# Altium schematic symbol library Sch for NFC.SchLib: 70 symbols (part 6 of 7)
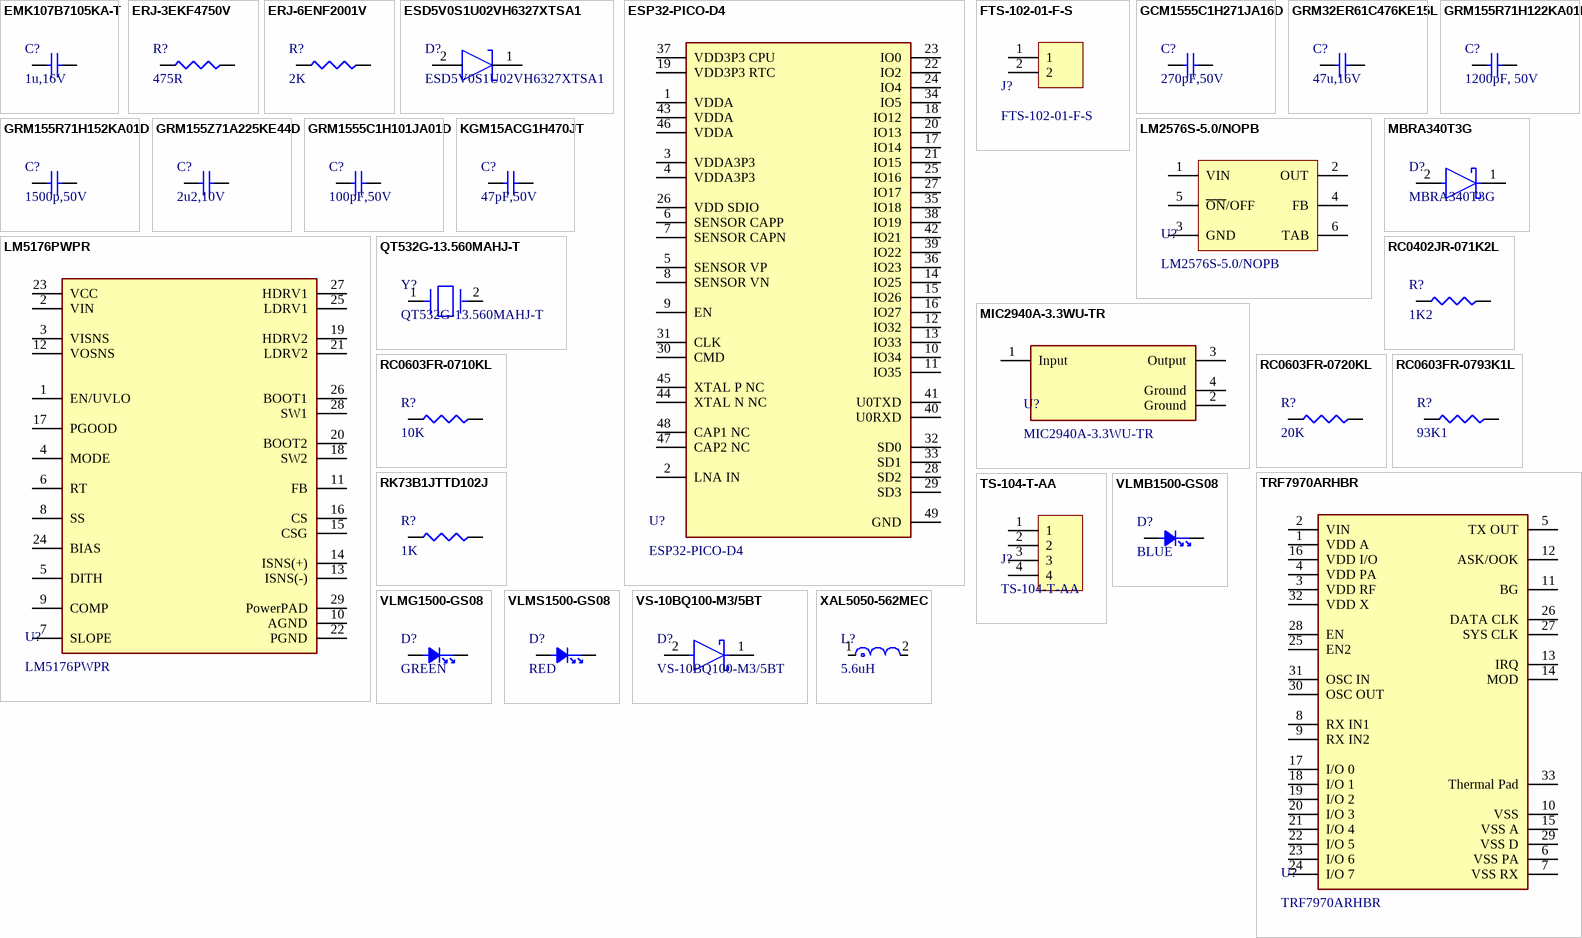
[diagram p6: symbols EMK107B7105KA-T to XAL5050-562MEC]

## GRM32ER61C476KE15L
designator C?, comment 47u,16V
47 µF ±10% 16V Ceramic Capacitor X5R 1210 (3225 Metric); Manufacturer: Murata; Manufacturer Part Number: GRM32ER61C476KE15L; Manufacturer Lifecycle Status: NRND; Value: 47µF; Supplier: DigiKey; RoHS: Compliant; Category: Ceramic Capacitors; Stock: 76946; Pricing: 1=1.23, 10=0.798, 50=0.6284, 100=0.5762, 500=0.48794, 1000=0.46985, 2000=0.44694, 3000=0.43546, 5000=0.42273, 7000=0.41529, 10000=0.40814, 12000=0.40475, 24000=0.39332, 25000=0.39272 (USD); Case/Package: 1210; Case Code (Imperial): 1210; Case Code (Metric): 3225; Depth: 2.5mm; Dielectric: X5R; Dielectric Material: Ceramic; Height: 2.5mm; Lead Free: Lead Free; Length: 3.2mm; Lifecycle Status: NRND; Material: Ceramic; Max Operating Temperature: 85°C; Min Operating Temperature: -55°C; Mounting Technology: Surface Mount; Pins: 2; Number of Terminals: 2; Radiation Hardening: No; REACH SVHC: Yes; Schedule B: 8532240020, 8532240020|8532240020, 8532240020|8532240020|8532240020, 8532240020|8532240020|8532240020|8532240020; Termination: SMD/SMT; Thickness: 2.5mm; Tolerance: 10%; Voltage: 16V; Voltage Rating: 16V; Voltage Rating (DC): 16V; Width: 2.5mm; ComponentLink1URL: https://datasheet.octopart.com:443/GRM32ER61C476KE15L-Murata-datasheet-11893327.pdf?src-supplier=_legacy+Avnet; ComponentLink1Description: https://datasheet.octopart.com:443/GRM32ER61C476KE15L-Murata-datasheet-11893327.pdf?src-supplier=_legacy+Avnet; ComponentLink2URL: https://datasheet.octopart.com:443/GRM32ER61C476KE15L-Murata-datasheet-62317406.pdf?src-supplier=element14+APAC; ComponentLink2Description: https://datasheet.octopart.com:443/GRM32ER61C476KE15L-Murata-datasheet-62317406.pdf?src-supplier=element14+APAC; ComponentLink3URL: https://datasheet.octopart.com:443/GRM32ER61C476KE15L-Murata-datasheet-17853190.pdf?src-supplier=element14+APAC; ComponentLink3Description: https://datasheet.octopart.com:443/GRM32ER61C476KE15L-Murata-datasheet-17853190.pdf?src-supplier=element14+APAC; ComponentLink4URL: https://datasheet.octopart.com:443/GRM32ER61C476KE15L-Murata-datasheet-8817987.pdf?src-supplier=Newark; ComponentLink4Description: https://datasheet.octopart.com:443/GRM32ER61C476KE15L-Murata-datasheet-8817987.pdf?src-supplier=Newark; ComponentLink5URL: https://datasheet.octopart.com:443/GRM32ER61C476KE15L-Murata-datasheet-14403028.pdf?src-supplier=Future+Electronics; ComponentLink5Description: https://datasheet.octopart.com:443/GRM32ER61C476KE15L-Murata-datasheet-14403028.pdf?src-supplier=Future+Electronics; ComponentLink6URL: https://datasheet.octopart.com:443/GRM32ER61C476KE15L-Murata-datasheet-22122223.pdf?src-supplier=Future+Electronics; ComponentLink6Description: https://datasheet.octopart.com:443/GRM32ER61C476KE15L-Murata-datasheet-22122223.pdf?src-supplier=Future+Electronics; ComponentLink7URL: https://datasheet.octopart.com:443/GRM32ER61C476KE15L-Murata-datasheet-44109711.pdf?src-supplier=Future+Electronics; ComponentLink7Description: https://datasheet.octopart.com:443/GRM32ER61C476KE15L-Murata-datasheet-44109711.pdf?src-supplier=Future+Electronics; ComponentLink8URL: https://datasheet.octopart.com:443/GRM32ER61C476KE15L-Murata-datasheet-165579666.pdf?src-supplier=TME; ComponentLink8Description: https://datasheet.octopart.com:443/GRM32ER61C476KE15L-Murata-datasheet-165579666.pdf?src-supplier=TME; ComponentLink9URL: https://datasheet.octopart.com:443/GRM32ER61C476KE15L-Murata-datasheet-59876780.pdf?src-supplier=TME; ComponentLink9Description: https://datasheet.octopart.com:443/GRM32ER61C476KE15L-Murata-datasheet-59876780.pdf?src-supplier=TME; ComponentLink10URL: https://datasheet.octopart.com:443/GRM32ER61C476KE15L-Murata-datasheet-140709622.pdf?src-supplier=Ciiva; ComponentLink10Description: https://datasheet.octopart.com:443/GRM32ER61C476KE15L-Murata-datasheet-140709622.pdf?src-supplier=Ciiva; ComponentLink11URL: https://datasheet.octopart.com:443/GRM32ER61C476KE15L-Murata-datasheet-138747025.pdf?src-supplier=Ciiva; ComponentLink11Description: https://datasheet.octopart.com:443/GRM32ER61C476KE15L-Murata-datasheet-138747025.pdf?src-supplier=Ciiva; ComponentLink12URL: https://datasheet.octopart.com:443/GRM32ER61C476KE15L-Murata-datasheet-14047368.pdf?src-supplier=iiiC; ComponentLink12Description: https://datasheet.octopart.com:443/GRM32ER61C476KE15L-Murata-datasheet-14047368.pdf?src-supplier=iiiC; ComponentLink13URL: https://datasheet.octopart.com/GRM32ER61C476KE15L-Murata-datasheet-12515295.pdf; ComponentLink13Description: https://datasheet.octopart.com/GRM32ER61C476KE15L-Murata-datasheet-12515295.pdf; ComponentLink14URL: https://datasheet.octopart.com/GRM32ER61C476KE15L-Murata-datasheet-12510076.pdf; ComponentLink14Description: https://datasheet.octopart.com/GRM32ER61C476KE15L-Murata-datasheet-12510076.pdf; ComponentLink15URL: https://datasheet.octopart.com/GRM32ER61C476KE15L-Murata-datasheet-11978611.pdf; ComponentLink15Description: https://datasheet.octopart.com/GRM32ER61C476KE15L-Murata-datasheet-11978611.pdf; ComponentLink16URL: https://datasheet.octopart.com/GRM32ER61C476KE15L-Murata-datasheet-10025737.pdf; ComponentLink16Description: https://datasheet.octopart.com/GRM32ER61C476KE15L-Murata-datasheet-10025737.pdf; ComponentLink17URL: https://datasheet.octopart.com/GRM32ER61C476KE15L-Murata-datasheet-8819587.pdf; ComponentLink17Description: https://datasheet.octopart.com/GRM32ER61C476KE15L-Murata-datasheet-8819587.pdf; ComponentLink18URL: https://datasheet.octopart.com:443/GRM32ER61C476KE15L.-Murata-datasheet-5332913.pdf?src-supplier=Farnell; ComponentLink18Description: https://datasheet.octopart.com:443/GRM32ER61C476KE15L.-Murata-datasheet-5332913.pdf?src-supplier=Farnell; ComponentLink19URL: http://sigma.octopart.com:80/reach_statement/Murata-company-16.pdf?src-supplier=Compliance+Statements; ComponentLink19Description: http://sigma.octopart.com:80/reach_statement/Murata-company-16.pdf?src-supplier=Compliance+Statements; LCSC PN: C77101
footprint cap1210-47u-16v
pins: 1, 2

## GRM155R71H122KA01D
designator C?, comment 1200pF, 50V
1200 pF ±10% 50V Ceramic Capacitor X7R 0402 (1005 Metric); Manufacturer: Murata; Manufacturer Part Number: GRM155R71H122KA01D; Manufacturer Lifecycle Status: NRND; Value: 1.2nF; Supplier: DigiKey; RoHS: Compliant; Category: Ceramic Capacitors; Stock: 161514; Pricing: 1=0.1, 10=0.027, 50=0.0184, 100=0.0156, 500=0.01102, 1000=0.00962, 2500=0.00781, 5000=0.00728 (USD); Case/Package: 0402; Case Code (Imperial): 0402; Case Code (Metric): 1005; Depth: 500µm; Dielectric: X7R; Dielectric Material: Ceramic; Height: 500µm; Lead Free: Lead Free; Length: 1mm; Lifecycle Status: NRND; Material: Ceramic; Max Operating Temperature: 125°C; Min Operating Temperature: -55°C; Mounting Technology: Surface Mount; Pins: 2; Number of Terminals: 2; Radiation Hardening: No; REACH SVHC: Yes; Schedule B: 8532240020, 8532240020|8532240020, 8532240020|8532240020|8532240020, 8532240020|8532240020|8532240020|8532240020; Termination: SMD/SMT; Thickness: 500µm; Tolerance: 10%; Voltage: 50V; Voltage Rating: 50V; Voltage Rating (DC): 50V; Width: 500µm; ComponentLink1URL: https://datasheet.octopart.com/GRM155R71H122KA01D-Murata-datasheet-12541967.pdf; ComponentLink1Description: https://datasheet.octopart.com/GRM155R71H122KA01D-Murata-datasheet-12541967.pdf; ComponentLink2URL: https://datasheet.octopart.com/GRM155R71H122KA01D-Murata-datasheet-12515295.pdf; ComponentLink2Description: https://datasheet.octopart.com/GRM155R71H122KA01D-Murata-datasheet-12515295.pdf; ComponentLink3URL: https://datasheet.octopart.com/GRM155R71H122KA01D-Murata-datasheet-12510076.pdf; ComponentLink3Description: https://datasheet.octopart.com/GRM155R71H122KA01D-Murata-datasheet-12510076.pdf; ComponentLink4URL: https://datasheet.octopart.com/GRM155R71H122KA01D-Murata-datasheet-11978611.pdf; ComponentLink4Description: https://datasheet.octopart.com/GRM155R71H122KA01D-Murata-datasheet-11978611.pdf; ComponentLink5URL: https://datasheet.octopart.com/GRM155R71H122KA01D-Murata-datasheet-10025737.pdf; ComponentLink5Description: https://datasheet.octopart.com/GRM155R71H122KA01D-Murata-datasheet-10025737.pdf; ComponentLink6URL: https://datasheet.octopart.com/GRM155R71H122KA01D-Murata-datasheet-8819587.pdf; ComponentLink6Description: https://datasheet.octopart.com/GRM155R71H122KA01D-Murata-datasheet-8819587.pdf; ComponentLink7URL: https://datasheet.octopart.com:443/GRM155R71H122KA01D-Murata-datasheet-140691773.pdf?src-supplier=Ciiva; ComponentLink7Description: https://datasheet.octopart.com:443/GRM155R71H122KA01D-Murata-datasheet-140691773.pdf?src-supplier=Ciiva; ComponentLink8URL: https://datasheet.octopart.com:443/GRM155R71H122KA01D-Murata-datasheet-140689249.pdf?src-supplier=Ciiva; ComponentLink8Description: https://datasheet.octopart.com:443/GRM155R71H122KA01D-Murata-datasheet-140689249.pdf?src-supplier=Ciiva; ComponentLink9URL: https://datasheet.octopart.com:443/GRM155R71H122KA01D-Murata-datasheet-138740985.pdf?src-supplier=Ciiva; ComponentLink9Description: https://datasheet.octopart.com:443/GRM155R71H122KA01D-Murata-datasheet-138740985.pdf?src-supplier=Ciiva; ComponentLink10URL: https://datasheet.octopart.com:443/GRM155R71H122KA01D-Murata-datasheet-22122223.pdf?src-supplier=Future+Electronics; ComponentLink10Description: https://datasheet.octopart.com:443/GRM155R71H122KA01D-Murata-datasheet-22122223.pdf?src-supplier=Future+Electronics; ComponentLink11URL: https://datasheet.octopart.com:443/GRM155R71H122KA01D-Murata-datasheet-44106582.pdf?src-supplier=Future+Electronics; ComponentLink11Description: https://datasheet.octopart.com:443/GRM155R71H122KA01D-Murata-datasheet-44106582.pdf?src-supplier=Future+Electronics; ComponentLink12URL: https://datasheet.octopart.com:443/GRM155R71H122KA01D-Murata-datasheet-102.pdf?src-supplier=DigiKey; ComponentLink12Description: https://datasheet.octopart.com:443/GRM155R71H122KA01D-Murata-datasheet-102.pdf?src-supplier=DigiKey; ComponentLink13URL: http://sigma.octopart.com:80/reach_statement/Murata-company-16.pdf?src-supplier=Compliance+Statements; ComponentLink13Description: http://sigma.octopart.com:80/reach_statement/Murata-company-16.pdf?src-supplier=Compliance+Statements; LCSC PN: C116368
footprint 1200F-50V-0402-Murata_GRM15_MFG
pins: 1, 2

## GRM155R71H152KA01D
designator C?, comment 1500p,50V
1500 pF ±10% 50V Ceramic Capacitor X7R 0402 (1005 Metric); Manufacturer: Murata; Manufacturer Part Number: GRM155R71H152KA01D; Manufacturer Lifecycle Status: NRND; Value: 1.5nF; Supplier: DigiKey; RoHS: Compliant; Category: Ceramic Capacitors; Stock: 112151; Pricing: 1=0.1, 10=0.021, 50=0.0138, 100=0.0117, 500=0.00816, 1000=0.00708, 2500=0.00572, 5000=0.00527, 10000=0.00425, 20000=0.00326, 30000=0.00324, 50000=0.00322, 70000=0.0032, 100000=0.00314, 120000=0.00308, 240000=0.00288, 250000=0.00287 (USD); Case/Package: 0402; Case Code (Imperial): 0402; Case Code (Metric): 1005; Depth: 500µm; Dielectric: X7R; Dielectric Material: Ceramic; Height: 500µm; Lead Free: Lead Free; Length: 1mm; Lifecycle Status: NRND; Material: Ceramic; Max Operating Temperature: 125°C; Min Operating Temperature: -55°C; Mounting Technology: Surface Mount; Pins: 2; Number of Terminals: 2; Packaging: Cut Tape; Radiation Hardening: No; REACH SVHC: Yes; Schedule B: 8532240020, 8532240020|8532240020, 8532240020|8532240020|8532240020, 8532240020|8532240020|8532240020|8532240020; Termination: SMD/SMT; Thickness: 500µm; Tolerance: 10%; Voltage: 50V; Voltage Rating: 50V; Voltage Rating (DC): 50V; Width: 500µm; ComponentLink1URL: https://datasheet.octopart.com:443/GRM155R71H152KA01D-Murata-datasheet-8817987.pdf?src-supplier=element14+APAC; ComponentLink1Description: https://datasheet.octopart.com:443/GRM155R71H152KA01D-Murata-datasheet-8817987.pdf?src-supplier=element14+APAC; ComponentLink2URL: https://datasheet.octopart.com:443/GRM155R71H152KA01D-Murata-datasheet-62317135.pdf?src-supplier=element14+APAC; ComponentLink2Description: https://datasheet.octopart.com:443/GRM155R71H152KA01D-Murata-datasheet-62317135.pdf?src-supplier=element14+APAC; ComponentLink3URL: https://datasheet.octopart.com:443/GRM155R71H152KA01D-Murata-datasheet-8326276.pdf?src-supplier=_legacy+Avnet; ComponentLink3Description: https://datasheet.octopart.com:443/GRM155R71H152KA01D-Murata-datasheet-8326276.pdf?src-supplier=_legacy+Avnet; ComponentLink4URL: https://datasheet.octopart.com/GRM155R71H152KA01D-Murata-datasheet-12534922.pdf; ComponentLink4Description: https://datasheet.octopart.com/GRM155R71H152KA01D-Murata-datasheet-12534922.pdf; ComponentLink5URL: https://datasheet.octopart.com/GRM155R71H152KA01D-Murata-datasheet-12515295.pdf; ComponentLink5Description: https://datasheet.octopart.com/GRM155R71H152KA01D-Murata-datasheet-12515295.pdf; ComponentLink6URL: https://datasheet.octopart.com/GRM155R71H152KA01D-Murata-datasheet-12510076.pdf; ComponentLink6Description: https://datasheet.octopart.com/GRM155R71H152KA01D-Murata-datasheet-12510076.pdf; ComponentLink7URL: https://datasheet.octopart.com/GRM155R71H152KA01D-Murata-datasheet-11978611.pdf; ComponentLink7Description: https://datasheet.octopart.com/GRM155R71H152KA01D-Murata-datasheet-11978611.pdf; ComponentLink8URL: https://datasheet.octopart.com/GRM155R71H152KA01D-Murata-datasheet-10025737.pdf; ComponentLink8Description: https://datasheet.octopart.com/GRM155R71H152KA01D-Murata-datasheet-10025737.pdf; ComponentLink9URL: https://datasheet.octopart.com/GRM155R71H152KA01D-Murata-datasheet-8819587.pdf; ComponentLink9Description: https://datasheet.octopart.com/GRM155R71H152KA01D-Murata-datasheet-8819587.pdf; ComponentLink10URL: https://datasheet.octopart.com:443/GRM155R71H152KA01D-Murata-datasheet-141266224.pdf?src-supplier=Ciiva; ComponentLink10Description: https://datasheet.octopart.com:443/GRM155R71H152KA01D-Murata-datasheet-141266224.pdf?src-supplier=Ciiva; ComponentLink11URL: https://datasheet.octopart.com:443/GRM155R71H152KA01D-Murata-datasheet-140691779.pdf?src-supplier=Ciiva; ComponentLink11Description: https://datasheet.octopart.com:443/GRM155R71H152KA01D-Murata-datasheet-140691779.pdf?src-supplier=Ciiva; ComponentLink12URL: https://datasheet.octopart.com:443/GRM155R71H152KA01D-Murata-datasheet-138797361.pdf?src-supplier=Ciiva; ComponentLink12Description: https://datasheet.octopart.com:443/GRM155R71H152KA01D-Murata-datasheet-138797361.pdf?src-supplier=Ciiva; ComponentLink13URL: https://datasheet.octopart.com:443/GRM155R71H152KA01D-Murata-datasheet-138740991.pdf?src-supplier=Ciiva; ComponentLink13Description: https://datasheet.octopart.com:443/GRM155R71H152KA01D-Murata-datasheet-138740991.pdf?src-supplier=Ciiva; ComponentLink14URL: https://datasheet.octopart.com:443/GRM155R71H152KA01D-Murata-datasheet-81455584.pdf?src-supplier=TME; ComponentLink14Description: https://datasheet.octopart.com:443/GRM155R71H152KA01D-Murata-datasheet-81455584.pdf?src-supplier=TME; ComponentLink15URL: https://datasheet.octopart.com:443/GRM155R71H152KA01D-Murata-datasheet-22122223.pdf?src-supplier=Future+Electronics; ComponentLink15Description: https://datasheet.octopart.com:443/GRM155R71H152KA01D-Murata-datasheet-22122223.pdf?src-supplier=Future+Electronics; ComponentLink16URL: https://datasheet.octopart.com:443/GRM155R71H152KA01D-Murata-datasheet-44106597.pdf?src-supplier=Future+Electronics; ComponentLink16Description: https://datasheet.octopart.com:443/GRM155R71H152KA01D-Murata-datasheet-44106597.pdf?src-supplier=Future+Electronics; ComponentLink17URL: https://datasheet.octopart.com:443/GRM155R71H152KA01D-Murata-datasheet-11794207.pdf?src-supplier=Arrow+Electronics; ComponentLink17Description: https://datasheet.octopart.com:443/GRM155R71H152KA01D-Murata-datasheet-11794207.pdf?src-supplier=Arrow+Electronics; ComponentLink18URL: https://datasheet.octopart.com:443/GRM155R71H152KA01D.-Murata-datasheet-5332913.pdf?src-supplier=Farnell; ComponentLink18Description: https://datasheet.octopart.com:443/GRM155R71H152KA01D.-Murata-datasheet-5332913.pdf?src-supplier=Farnell; ComponentLink19URL: https://datasheet.octopart.com:443/GRM155R71H152KA01D-Murata-datasheet-8634235.pdf?src-supplier=Jameco; ComponentLink19Description: https://datasheet.octopart.com:443/GRM155R71H152KA01D-Murata-datasheet-8634235.pdf?src-supplier=Jameco; ComponentLink20URL: https://datasheet.octopart.com:443/GRM155R71H152KA01D-Murata-datasheet-118811.pdf?src-supplier=DigiKey; ComponentLink20Description: https://datasheet.octopart.com:443/GRM155R71H152KA01D-Murata-datasheet-118811.pdf?src-supplier=DigiKey; ComponentLink21URL: http://sigma.octopart.com:80/reach_statement/Murata-company-16.pdf?src-supplier=Compliance+Statements; ComponentLink21Description: http://sigma.octopart.com:80/reach_statement/Murata-company-16.pdf?src-supplier=Compliance+Statements; LCSC PN: C77021
footprint C0402-1500pF-Murata_GRM15_MFG
pins: 1, 2

## GRM155Z71A225KE44D
designator C?, comment 2u2,10V
2.2 µF ±10% 10V Ceramic Capacitor X7R 0402 (1005 Metric); Manufacturer: Murata; Manufacturer Part Number: GRM155Z71A225KE44D; Manufacturer Lifecycle Status: IN PRODUCTION; Value: 2.2µF; Supplier: DigiKey; RoHS: Compliant; Category: Ceramic Capacitors; Stock: 150874; Pricing: 1=0.15, 10=0.083, 50=0.0582, 100=0.0506, 500=0.0359, 1000=0.03409, 2500=0.02999 (USD); Case/Package: 0402; Dielectric Material: Ceramic; Height: 500µm; Length: 1mm; Lifecycle Status: Production; Material: Ceramic; Max Operating Temperature: 125°C; Min Operating Temperature: -55°C; Mounting Technology: Surface Mount; Pins: 2; Number of Terminals: 2; REACH SVHC: Yes; Thickness: 500µm; Tolerance: 10%; Voltage Rating: 10V; Voltage Rating (DC): 10V; Width: 500µm; ComponentLink1URL: https://datasheet.octopart.com:443/GRM155Z71A225KE44D-Murata-datasheet-165579666.pdf?src-supplier=TME; ComponentLink1Description: https://datasheet.octopart.com:443/GRM155Z71A225KE44D-Murata-datasheet-165579666.pdf?src-supplier=TME; ComponentLink2URL: https://datasheet.octopart.com:443/GRM155Z71A225KE44D-Murata-datasheet-141266224.pdf?src-supplier=Ciiva; ComponentLink2Description: https://datasheet.octopart.com:443/GRM155Z71A225KE44D-Murata-datasheet-141266224.pdf?src-supplier=Ciiva; ComponentLink3URL: https://datasheet.octopart.com:443/GRM155Z71A225KE44D-Murata-datasheet-140692717.pdf?src-supplier=Ciiva; ComponentLink3Description: https://datasheet.octopart.com:443/GRM155Z71A225KE44D-Murata-datasheet-140692717.pdf?src-supplier=Ciiva; ComponentLink4URL: https://datasheet.octopart.com:443/GRM155Z71A225KE44D-Murata-datasheet-138741105.pdf?src-supplier=Ciiva; ComponentLink4Description: https://datasheet.octopart.com:443/GRM155Z71A225KE44D-Murata-datasheet-138741105.pdf?src-supplier=Ciiva; ComponentLink5URL: http://sigma.octopart.com:80/reach_statement/Murata-company-16.pdf?src-supplier=Compliance+Statements; ComponentLink5Description: http://sigma.octopart.com:80/reach_statement/Murata-company-16.pdf?src-supplier=Compliance+Statements; LCSC PN: C2999759
footprint C0402-2.2u-10V-Murata_GRM155-0_2_MFG
pins: 1, 2

## GRM1555C1H101JA01D
designator C?, comment 100pF,50V
100 pF ±5% 50V Ceramic Capacitor C0G, NP0 0402 (1005 Metric); Manufacturer: Murata; Manufacturer Part Number: GRM1555C1H101JA01D; Manufacturer Lifecycle Status: NRND; Supplier: DigiKey; RoHS: Compliant; Category: Ceramic Capacitors; Stock: 456624; Pricing: 1=0.1, 10=0.022, 50=0.0144, 100=0.0122, 500=0.0085, 1000=0.00738, 2500=0.0062, 5000=0.0055 (USD); Value: 100pF; Case/Package: 0402; Case Code (Imperial): 0402; Case Code (Metric): 1005; Depth: 500µm; Dielectric: C0G; Dielectric Material: Ceramic; Height: 500µm; Lead Free: Lead Free; Length: 1mm; Lifecycle Status: NRND; Material: Ceramic; Max Operating Temperature: 125°C; Min Operating Temperature: -55°C; Mounting Technology: Surface Mount; Number of Terminals: 2; Packaging: Cut Tape; Radiation Hardening: No; REACH SVHC: Yes; Schedule B: 8532240020, 8532240020|8532240020, 8532240020|8532240020|8532240020, 8532240020|8532240020|8532240020|8532240020; Termination: SMD/SMT; Thickness: 500µm; Tolerance: 5%; Voltage: 50V; Voltage Rating: 50V; Voltage Rating (DC): 50V; Width: 500µm; ComponentLink1URL: https://datasheet.octopart.com:443/GRM1555C1H101JA01D-Murata-datasheet-12559435.pdf?src-supplier=element14+APAC; ComponentLink1Description: https://datasheet.octopart.com:443/GRM1555C1H101JA01D-Murata-datasheet-12559435.pdf?src-supplier=element14+APAC; ComponentLink2URL: https://datasheet.octopart.com:443/GRM1555C1H101JA01D-Murata-datasheet-62317043.pdf?src-supplier=element14+APAC; ComponentLink2Description: https://datasheet.octopart.com:443/GRM1555C1H101JA01D-Murata-datasheet-62317043.pdf?src-supplier=element14+APAC; ComponentLink3URL: https://datasheet.octopart.com:443/GRM1555C1H101JA01D-Murata-datasheet-11894428.pdf?src-supplier=_legacy+Avnet; ComponentLink3Description: https://datasheet.octopart.com:443/GRM1555C1H101JA01D-Murata-datasheet-11894428.pdf?src-supplier=_legacy+Avnet; ComponentLink4URL: https://datasheet.octopart.com:443/GRM1555C1H101JA01D-Murata-datasheet-14396361.pdf?src-supplier=Future+Electronics; ComponentLink4Description: https://datasheet.octopart.com:443/GRM1555C1H101JA01D-Murata-datasheet-14396361.pdf?src-supplier=Future+Electronics; ComponentLink5URL: https://datasheet.octopart.com:443/GRM1555C1H101JA01D-Murata-datasheet-22122223.pdf?src-supplier=Future+Electronics; ComponentLink5Description: https://datasheet.octopart.com:443/GRM1555C1H101JA01D-Murata-datasheet-22122223.pdf?src-supplier=Future+Electronics; ComponentLink6URL: https://datasheet.octopart.com:443/GRM1555C1H101JA01D-Murata-datasheet-44105804.pdf?src-supplier=Future+Electronics; ComponentLink6Description: https://datasheet.octopart.com:443/GRM1555C1H101JA01D-Murata-datasheet-44105804.pdf?src-supplier=Future+Electronics; ComponentLink7URL: https://datasheet.octopart.com:443/GRM1555C1H101JA01D-Murata-datasheet-165579666.pdf?src-supplier=TME; ComponentLink7Description: https://datasheet.octopart.com:443/GRM1555C1H101JA01D-Murata-datasheet-165579666.pdf?src-supplier=TME; ComponentLink8URL: https://datasheet.octopart.com:443/GRM1555C1H101JA01D-Murata-datasheet-59876780.pdf?src-supplier=TME; ComponentLink8Description: https://datasheet.octopart.com:443/GRM1555C1H101JA01D-Murata-datasheet-59876780.pdf?src-supplier=TME; ComponentLink9URL: https://datasheet.octopart.com:443/GRM1555C1H101JA01D-Murata-datasheet-141266224.pdf?src-supplier=Ciiva; ComponentLink9Description: https://datasheet.octopart.com:443/GRM1555C1H101JA01D-Murata-datasheet-141266224.pdf?src-supplier=Ciiva; ComponentLink10URL: https://datasheet.octopart.com:443/GRM1555C1H101JA01D-Murata-datasheet-140680898.pdf?src-supplier=Ciiva; ComponentLink10Description: https://datasheet.octopart.com:443/GRM1555C1H101JA01D-Murata-datasheet-140680898.pdf?src-supplier=Ciiva; ComponentLink11URL: https://datasheet.octopart.com:443/GRM1555C1H101JA01D-Murata-datasheet-138739442.pdf?src-supplier=Ciiva; ComponentLink11Description: https://datasheet.octopart.com:443/GRM1555C1H101JA01D-Murata-datasheet-138739442.pdf?src-supplier=Ciiva; ComponentLink12URL: https://datasheet.octopart.com/GRM1555C1H101JA01D-Murata-datasheet-12515295.pdf; ComponentLink12Description: https://datasheet.octopart.com/GRM1555C1H101JA01D-Murata-datasheet-12515295.pdf; ComponentLink13URL: https://datasheet.octopart.com/GRM1555C1H101JA01D-Murata-datasheet-12510076.pdf; ComponentLink13Description: https://datasheet.octopart.com/GRM1555C1H101JA01D-Murata-datasheet-12510076.pdf; ComponentLink14URL: https://datasheet.octopart.com/GRM1555C1H101JA01D-Murata-datasheet-11978611.pdf; ComponentLink14Description: https://datasheet.octopart.com/GRM1555C1H101JA01D-Murata-datasheet-11978611.pdf; ComponentLink15URL: https://datasheet.octopart.com/GRM1555C1H101JA01D-Murata-datasheet-10025737.pdf; ComponentLink15Description: https://datasheet.octopart.com/GRM1555C1H101JA01D-Murata-datasheet-10025737.pdf; ComponentLink16URL: https://datasheet.octopart.com/GRM1555C1H101JA01D-Murata-datasheet-8819587.pdf; ComponentLink16Description: https://datasheet.octopart.com/GRM1555C1H101JA01D-Murata-datasheet-8819587.pdf; ComponentLink17URL: http://sigma.octopart.com:80/reach_statement/Murata-company-16.pdf?src-supplier=Compliance+Statements; ComponentLink17Description: http://sigma.octopart.com:80/reach_statement/Murata-company-16.pdf?src-supplier=Compliance+Statements; LCSC PN: C77177
footprint 100pf-50v-0402-Murata_GRM15_MFG
pins: 1, 2

## KGM15ACG1H470JT
designator C?, comment 47pF,50V
47 pF ±5% 50V Ceramic Capacitor C0G, NP0 0603 (1608 Metric); Manufacturer: KYOCERA AVX; Manufacturer Part Number: KGM15ACG1H470JT; Supplier: DigiKey; RoHS: Compliant; Category: Ceramic Capacitors; Stock: 45031; Pricing: 1=0.1, 10=0.038, 50=0.0258, 100=0.0221, 500=0.0159, 1000=0.014 (USD); Value: 47pF; China RoHS: Compliant; Dielectric Material: Ceramic; Height: 900µm; Length: 1.6mm; Lifecycle Status: Production; Max Operating Temperature: 125°C; Min Operating Temperature: -55°C; Mounting Technology: Surface Mount; Number of Terminals: 2; REACH SVHC: Yes; Voltage Rating (DC): 50V; Width: 810µm; ComponentLink1URL: https://datasheet.octopart.com:443/KGM15ACG1H470JT-KYOCERA-AVX-datasheet-182064292.pdf?src-supplier=IHS; ComponentLink1Description: https://datasheet.octopart.com:443/KGM15ACG1H470JT-KYOCERA-AVX-datasheet-182064292.pdf?src-supplier=IHS; ComponentLink2URL: https://datasheet.octopart.com:443/KGM15ACG1H470JT-KYOCERA-AVX-datasheet-178027269.pdf?src-supplier=TME; ComponentLink2Description: https://datasheet.octopart.com:443/KGM15ACG1H470JT-KYOCERA-AVX-datasheet-178027269.pdf?src-supplier=TME; LCSC PN: C513324
footprint CAP-0603-47PF-50V
pins: 1, 2

## LM2576S-5.0/NOPB
designator U?
Buck Switching Regulator IC Positive Fixed 5V 1 Output 3A TO-263-6, D2PAK (5 Leads + Tab), TO-263BA; Manufacturer: Texas Instruments; Manufacturer Lifecycle Status: ACTIVE; Efficiency: 77%; Frequency: 52kHz; Max Supply Voltage: 40V; Min Input Voltage: 4V; Number of Channels: 1; Quiescent Current: 5mA; Switching Frequency: 58kHz; Supplier: DigiKey; Manufacturer Part Number: LM2576S-5.0/NOPB; RoHS: Compliant; Category: Voltage Regulators - Switching; Stock: 2580; Pricing: 1=4.48, 10=3.404, 45=2.99378, 135=2.78644, 270=2.68493, 540=2.60139, 1035=2.53646, 2520=2.46488 (USD); Case/Package: TO-263; Contact Plating: Tin; Height: 4.83mm; Length: 10.16mm; Lifecycle Status: Production; Max Operating Temperature: 125°C; Max Output current: 3A; Max Output Voltage: 5V; Min Operating Temperature: -40°C; Min Supply Voltage: 4V; Mounting Technology: Surface Mount; Nominal Output Voltage: 5V; Number of Outputs: 1; Pins: 5; Output Current: 3A; Output Type: Fixed; Output Voltage: 5V; Radiation Hardening: No; REACH SVHC: No; Schedule B: 8542390000, 8542390000|8542390000, 8542390000|8542390000|8542390000, 8542390000|8542390000|8542390000|8542390000; Termination: SMD/SMT; Thickness: 4.58mm; Topology: Buck; Weight: 113.398093g; Width: 8.42mm; ComponentLink1URL: https://datasheet.octopart.com:443/LM2576S-5.0-NOPB-Texas-Instruments-datasheet-31978431.pdf?src-supplier=Texas+Instruments; ComponentLink1Description: https://datasheet.octopart.com:443/LM2576S-5.0-NOPB-Texas-Instruments-datasheet-31978431.pdf?src-supplier=Texas+Instruments; ComponentLink2URL: https://octopart.com:443/opatz8j6/c1?t=vTLdpRcAlzxwQmwqkV-g5MTzL91FKiO8YCI-dhDlBjpFOXpoGPAkGRLiTPFv47FK8lYGfcXnum07RhFvMeg1HOGeo0LtdumxMxlN-xIkQw_vfXVzXGM0akenp6bKSTQFj1ZNusz68omFsyoOEm7g8d48LyM-SBkJ450NokXq2LiP3OuQAUCWRcJ0fwOEKd-FiuQnLDD6_BmQm3RvgjH20xeAZz2rgyw7lq3YoxOYrDy4xa6ZrBdDRdlCT8mEW5r_sEj2UZ1aF5CWxKLh0_vzSqei1yh5VZFFU7dwVtAbvRRfzdO2kJX0aQP-zxD6PSGdgU1GpBbMbKmIB9_ozpNjtvVts8IHig-UoyxZFed4aLsETwF_D_Fqylvb_4qKpcoF7BDWuA&src-supplier=Texas+Instruments; ComponentLink2Description: https://octopart.com:443/opatz8j6/c1?t=vTLdpRcAlzxwQmwqkV-g5MTzL91FKiO8YCI-dhDlBjpFOXpoGPAkGRLiTPFv47FK8lYGfcXnum07RhFvMeg1HOGeo0LtdumxMxlN-xIkQw_vfXVzXGM0akenp6bKSTQFj1ZNusz68omFsyoOEm7g8d48LyM-SBkJ450NokXq2LiP3OuQAUCWRcJ0fwOEKd-FiuQnLDD6_BmQm3RvgjH20xeAZz2rgyw7lq3YoxOYrDy4xa6ZrBdDRdlCT8mEW5r_sEj2UZ1aF5CWxKLh0_vzSqei1yh5VZFFU7dwVtAbvRRfzdO2kJX0aQP-zxD6PSGdgU1GpBbMbKmIB9_ozpNjtvVts8IHig-UoyxZFed4aLsETwF_D_Fqylvb_4qKpcoF7BDWuA&src-supplier=Texas+Instruments; ComponentLink3URL: https://sigma.octopart.com:443/49250911/technical_drawing/Texas-Instruments-LM2576S-5.0-NOPB.pdf?src-supplier=Texas+Instruments; ComponentLink3Description: https://sigma.octopart.com:443/49250911/technical_drawing/Texas-Instruments-LM2576S-5.0-NOPB.pdf?src-supplier=Texas+Instruments; ComponentLink4URL: https://datasheet.octopart.com:443/LM2576S-5.0-NOPB-Texas-Instruments-datasheet-14775416.pdf?src-supplier=Texas+Instruments; ComponentLink4Description: https://datasheet.octopart.com:443/LM2576S-5.0-NOPB-Texas-Instruments-datasheet-14775416.pdf?src-supplier=Texas+Instruments; ComponentLink5URL: https://datasheet.octopart.com:443/LM2576S-5.0/NOPB-Texas-Instruments-datasheet-13482831.pdf?src-supplier=Texas+Instruments; ComponentLink5Description: https://datasheet.octopart.com:443/LM2576S-5.0/NOPB-Texas-Instruments-datasheet-13482831.pdf?src-supplier=Texas+Instruments; ComponentLink6URL: https://datasheet.octopart.com:443/LM2576S-5.0/NOPB-Texas-Instruments-datasheet-10618141.pdf?src-supplier=element14; ComponentLink6Description: https://datasheet.octopart.com:443/LM2576S-5.0/NOPB-Texas-Instruments-datasheet-10618141.pdf?src-supplier=element14; ComponentLink7URL: https://datasheet.octopart.com:443/LM2576S-5.0-NOPB-Texas-Instruments-datasheet-2713.pdf?src-supplier=element14; ComponentLink7Description: https://datasheet.octopart.com:443/LM2576S-5.0-NOPB-Texas-Instruments-datasheet-2713.pdf?src-supplier=element14; ComponentLink8URL: https://datasheet.octopart.com:443/LM2576S-5.0-NOPB-Texas-Instruments-datasheet-21076658.pdf?src-supplier=Newark; ComponentLink8Description: https://datasheet.octopart.com:443/LM2576S-5.0-NOPB-Texas-Instruments-datasheet-21076658.pdf?src-supplier=Newark; ComponentLink9URL: https://datasheet.octopart.com:443/LM2576S-5.0-NOPB-Texas-Instruments-datasheet-58101102.pdf?src-supplier=Newark; ComponentLink9Description: https://datasheet.octopart.com:443/LM2576S-5.0-NOPB-Texas-Instruments-datasheet-58101102.pdf?src-supplier=Newark; ComponentLink10URL: https://datasheet.octopart.com:443/LM2576S-5.0-NOPB-Texas-Instruments-datasheet-21076659.pdf?src-supplier=Farnell; ComponentLink10Description: https://datasheet.octopart.com:443/LM2576S-5.0-NOPB-Texas-Instruments-datasheet-21076659.pdf?src-supplier=Farnell; ComponentLink11URL: https://datasheet.octopart.com:443/LM2576S-5.0-NOPB-Texas-Instruments-datasheet-14720404.pdf?src-supplier=Farnell; ComponentLink11Description: https://datasheet.octopart.com:443/LM2576S-5.0-NOPB-Texas-Instruments-datasheet-14720404.pdf?src-supplier=Farnell; ComponentLink12URL: https://datasheet.octopart.com:443/LM2576S-5.0-NOPB-Texas-Instruments-datasheet-164397537.pdf?src-supplier=LCSC; ComponentLink12Description: https://datasheet.octopart.com:443/LM2576S-5.0-NOPB-Texas-Instruments-datasheet-164397537.pdf?src-supplier=LCSC; ComponentLink13URL: https://datasheet.octopart.com:443/LM2576S-5.0-NOPB-Texas-Instruments-datasheet-159115115.pdf?src-supplier=LCSC; ComponentLink13Description: https://datasheet.octopart.com:443/LM2576S-5.0-NOPB-Texas-Instruments-datasheet-159115115.pdf?src-supplier=LCSC; ComponentLink14URL: https://datasheet.octopart.com:443/LM2576S-5.0-NOPB-Texas-Instruments-datasheet-96976008.pdf?src-supplier=TME; ComponentLink14Description: https://datasheet.octopart.com:443/LM2576S-5.0-NOPB-Texas-Instruments-datasheet-96976008.pdf?src-supplier=TME; ComponentLink15URL: https://datasheet.octopart.com:443/LM2576S-5.0-NOPB-Texas-Instruments-datasheet-49271545.pdf?src-supplier=element14+APAC; ComponentLink15Description: https://datasheet.octopart.com:443/LM2576S-5.0-NOPB-Texas-Instruments-datasheet-49271545.pdf?src-supplier=element14+APAC; ComponentLink16URL: https://datasheet.octopart.com:443/LM2576S-5.0/NOPB-National-Semiconductor-datasheet-9902084.pdf?src-supplier=RS+(Formerly+Allied+Electronics); ComponentLink16Description: https://datasheet.octopart.com:443/LM2576S-5.0/NOPB-National-Semiconductor-datasheet-9902084.pdf?src-supplier=RS+(Formerly+Allied+Electronics); ComponentLink17URL: https://datasheet.octopart.com:443/LM2576S-5.0-NOPB-Texas-Instruments-datasheet-8321813.pdf?src-supplier=Jameco; ComponentLink17Description: https://datasheet.octopart.com:443/LM2576S-5.0-NOPB-Texas-Instruments-datasheet-8321813.pdf?src-supplier=Jameco; ComponentLink18URL: http://sigma.octopart.com:80/conflict_mineral_statement/Texas-Instruments-company-63.pdf?src-supplier=Compliance+Statements; ComponentLink18Description: http://sigma.octopart.com:80/conflict_mineral_statement/Texas-Instruments-company-63.pdf?src-supplier=Compliance+Statements; ComponentLink19URL: http://sigma.octopart.com:80/reach_statement/Texas-Instruments-company-64.pdf?src-supplier=Compliance+Statements; ComponentLink19Description: http://sigma.octopart.com:80/reach_statement/Texas-Instruments-company-64.pdf?src-supplier=Compliance+Statements; LCSC PN: C880552
footprint DPAK-LM2576S-5.0/NOPB (DPAK, 5-Leads, Body 10.65x9.65mm, Pitch 1.7mm, IPC Low Density)
pins: 1 VIN, 2 OUT, 3 GND, 4 FB, 5 ~{ON}/OFF, 6 TAB

## LM5176PWPR
designator U?
Buck-Boost Regulator Positive Output Step-Up/Step-Down DC-DC Controller IC 28-HTSSOP; Manufacturer: Texas Instruments; Manufacturer Lifecycle Status: ACTIVE; Supplier: DigiKey; Manufacturer Part Number: LM5176PWPR; RoHS: Compliant; Category: Integrated Circuits (ICs); Stock: 2903; Pricing: 1=7.76, 10=6.004, 25=5.5644, 100=5.0815, 250=4.85124, 500=4.71244, 1000=4.59822 (USD); Height: 1.2mm; Length: 9.7mm; Lifecycle Status: Production; Max Operating Temperature: 125°C; Min Operating Temperature: -40°C; Pins: 28; Schedule B: 8542390000, 8542390000|8542390000|8542390000|8542390000|8542390000; Thickness: 1mm; Topology: Buck-Boost; Width: 4.4mm; ComponentLink1URL: https://sigma.octopart.com:443/149651771/technical_drawing/Texas-Instruments-LM5176PWPR.pdf?src-supplier=Texas+Instruments; ComponentLink1Description: https://sigma.octopart.com:443/149651771/technical_drawing/Texas-Instruments-LM5176PWPR.pdf?src-supplier=Texas+Instruments; ComponentLink2URL: https://octopart.com:443/opatz8j6/c1?t=vc9joNWpwikMECXl6jF3E6Rz0PZzyxJ3n3avslgP6iGH_Pm5K3HR4EsbWHcWcqIwfDGu90-AGlzUONDyCsw9SQjo38uZJTNl_w7gbkiBgEYgQyjwYYxXEhyIccZGENrah1CXUA36_ziZ7gkexytO-K5vyI9DK7METPvHxjBHvmNi7OG2pls60FX5nxWavgVQIbahnLozQoMaI7COdlCCGP_rK5NhxD3Zcy536ewMOB-0ew3sExV3JOwhmLFHLLPgOPFcGktcdZRW_oquGXAgjDjlXW9igv-y-SbO22o8f6JpQ7Y9bUyjZdLcKuJKpBPJ_JZEwxLu5Gu4m0ryBmHhYRwT4KNP0P55HakqvFZvEL0VRet7s9h1vAUAT8aDmYu6rw4H&src-supplier=Texas+Instruments; ComponentLink2Description: https://octopart.com:443/opatz8j6/c1?t=vc9joNWpwikMECXl6jF3E6Rz0PZzyxJ3n3avslgP6iGH_Pm5K3HR4EsbWHcWcqIwfDGu90-AGlzUONDyCsw9SQjo38uZJTNl_w7gbkiBgEYgQyjwYYxXEhyIccZGENrah1CXUA36_ziZ7gkexytO-K5vyI9DK7METPvHxjBHvmNi7OG2pls60FX5nxWavgVQIbahnLozQoMaI7COdlCCGP_rK5NhxD3Zcy536ewMOB-0ew3sExV3JOwhmLFHLLPgOPFcGktcdZRW_oquGXAgjDjlXW9igv-y-SbO22o8f6JpQ7Y9bUyjZdLcKuJKpBPJ_JZEwxLu5Gu4m0ryBmHhYRwT4KNP0P55HakqvFZvEL0VRet7s9h1vAUAT8aDmYu6rw4H&src-supplier=Texas+Instruments; ComponentLink3URL: https://sigma.octopart.com:443/49250896/technical_drawing/Texas-Instruments-LM5176PWPR.pdf?src-supplier=Texas+Instruments; ComponentLink3Description: https://sigma.octopart.com:443/49250896/technical_drawing/Texas-Instruments-LM5176PWPR.pdf?src-supplier=Texas+Instruments; ComponentLink4URL: http://sigma.octopart.com:80/conflict_mineral_statement/Texas-Instruments-company-63.pdf?src-supplier=Compliance+Statements; ComponentLink4Description: http://sigma.octopart.com:80/conflict_mineral_statement/Texas-Instruments-company-63.pdf?src-supplier=Compliance+Statements; ComponentLink5URL: http://sigma.octopart.com:80/reach_statement/Texas-Instruments-company-64.pdf?src-supplier=Compliance+Statements; ComponentLink5Description: http://sigma.octopart.com:80/reach_statement/Texas-Instruments-company-64.pdf?src-supplier=Compliance+Statements; LCSC PN: C442493
footprint FP-TSSOP28-BUCK-BOOST-LM5176PWPR
pins: 1 EN/UVLO, 2 VIN, 3 VISNS, 4 MODE, 5 DITH, 6 RT, 7 SLOPE, 8 SS, 9 COMP, 10 AGND, 11 FB, 12 VOSNS, 13 ISNS(-), 14 ISNS(+), 15 CSG, 16 CS, 17 PGOOD, 18 SW2, 19 HDRV2, 20 BOOT2, 21 LDRV2, 22 PGND, 23 VCC, 24 BIAS, 25 LDRV1, 26 BOOT1, 27 HDRV1, 28 SW1, 29 PowerPAD

## MBRA340T3G
designator D?
Diode; Schottky Barrier; Vr 40V; If 3A; Pkg SMA; Vf 0.45V; Tj +150degc; Cs 100A; Ir 15mA; Manufacturer: onsemi; Manufacturer Lifecycle Status: ACTIVE; Element Configuration: Single; Forward Voltage: 450mV; Max Junction Temperature (Tj): 150°C; Number of Elements: 1; Peak Reverse Current: 300µA; Polarity: Standard; Supplier: DigiKey; Manufacturer Part Number: MBRA340T3G; RoHS: Compliant; Category: Schottky Diodes; Stock: 140782; Pricing: 1=0.88, 10=0.548, 100=0.3555, 500=0.2726, 1000=0.24585, 2000=0.22334, 5000=0.19897, 10000=0.1839, 15000=0.17623, 25000=0.168 (USD); Average Rectified Current: 3A; Case/Package: SMA; China RoHS: Non-Compliant; Current Rating: 3A; Forward Current: 3A; Halogen Free: Halogen Free; Height: 2.2mm; Lead Free: Lead Free; Length: 4.32mm; Lifecycle Status: Production; Max Forward Surge Current (Ifsm): 100A; Max Operating Temperature: 150°C; Max Output current: 3A; Max Repetitive Reverse Voltage (Vrrm): 40V; Max Reverse Voltage (DC): 40V; Min Operating Temperature: -55°C; Pins: 2; Number of Terminals: 2; Output Current: 3A; Packaging: Tape and Reel; Peak Non-Repetitive Surge Current: 100A; Radiation Hardening: No; REACH SVHC: No; Reverse Standoff Voltage: 40V; Reverse Voltage: 40V; Schedule B: 8541100080; Voltage Rating (DC): 40V; Width: 2.6mm; ComponentLink1URL: https://datasheet.octopart.com:443/MBRA340T3G-ON-Semiconductor-datasheet-623523.pdf?src-supplier=Master+Electronics; ComponentLink1Description: https://datasheet.octopart.com:443/MBRA340T3G-ON-Semiconductor-datasheet-623523.pdf?src-supplier=Master+Electronics; ComponentLink2URL: https://datasheet.octopart.com:443/MBRA340T3G-ON-Semiconductor-datasheet-141916657.pdf?src-supplier=Upverter; ComponentLink2Description: https://datasheet.octopart.com:443/MBRA340T3G-ON-Semiconductor-datasheet-141916657.pdf?src-supplier=Upverter; ComponentLink3URL: https://datasheet.octopart.com:443/MBRA340T3G-onsemi-datasheet-180961701.pdf?src-supplier=IHS; ComponentLink3Description: https://datasheet.octopart.com:443/MBRA340T3G-onsemi-datasheet-180961701.pdf?src-supplier=IHS; ComponentLink4URL: https://datasheet.octopart.com:443/MBRA340T3G-ON-Semiconductor-datasheet-139011791.pdf?src-supplier=onsemi; ComponentLink4Description: https://datasheet.octopart.com:443/MBRA340T3G-ON-Semiconductor-datasheet-139011791.pdf?src-supplier=onsemi; ComponentLink5URL: https://datasheet.octopart.com:443/MBRA340T3G-ON-Semiconductor-datasheet-21210960.pdf?src-supplier=Newark; ComponentLink5Description: https://datasheet.octopart.com:443/MBRA340T3G-ON-Semiconductor-datasheet-21210960.pdf?src-supplier=Newark; ComponentLink6URL: https://datasheet.octopart.com:443/MBRA340T3G-ON-Semiconductor-datasheet-11724913.pdf?src-supplier=Newark; ComponentLink6Description: https://datasheet.octopart.com:443/MBRA340T3G-ON-Semiconductor-datasheet-11724913.pdf?src-supplier=Newark; ComponentLink7URL: https://datasheet.octopart.com:443/MBRA340T3G.-onsemi-datasheet-184397938.pdf?src-supplier=Newark; ComponentLink7Description: https://datasheet.octopart.com:443/MBRA340T3G.-onsemi-datasheet-184397938.pdf?src-supplier=Newark; ComponentLink8URL: https://datasheet.octopart.com:443/MBRA340T3G-onsemi-datasheet-180967052.pdf?src-supplier=Farnell; ComponentLink8Description: https://datasheet.octopart.com:443/MBRA340T3G-onsemi-datasheet-180967052.pdf?src-supplier=Farnell; ComponentLink9URL: https://datasheet.octopart.com:443/MBRA340T3G-ON-Semiconductor-datasheet-7627526.pdf?src-supplier=Farnell; ComponentLink9Description: https://datasheet.octopart.com:443/MBRA340T3G-ON-Semiconductor-datasheet-7627526.pdf?src-supplier=Farnell; ComponentLink10URL: https://datasheet.octopart.com:443/MBRA340T3G-ON-Semiconductor-datasheet-14054808.pdf?src-supplier=iiiC; ComponentLink10Description: https://datasheet.octopart.com:443/MBRA340T3G-ON-Semiconductor-datasheet-14054808.pdf?src-supplier=iiiC; ComponentLink11URL: https://datasheet.octopart.com:443/MBRA340T3G-ON-Semiconductor-datasheet-9706899.pdf?src-supplier=RS+(Formerly+Allied+Electronics); ComponentLink11Description: https://datasheet.octopart.com:443/MBRA340T3G-ON-Semiconductor-datasheet-9706899.pdf?src-supplier=RS+(Formerly+Allied+Electronics); ComponentLink12URL: http://sigma.octopart.com:80/15540786/rohs_certificate/ON-Semiconductor-MBRA340T3G.pdf?src-supplier=Compliance+Statements; ComponentLink12Description: http://sigma.octopart.com:80/15540786/rohs_certificate/ON-Semiconductor-MBRA340T3G.pdf?src-supplier=Compliance+Statements; ComponentLink13URL: http://sigma.octopart.com:80/15677621/materials_sheet/ON-Semiconductor-MBRA340T3G.csv?src-supplier=Compliance+Statements; ComponentLink13Description: http://sigma.octopart.com:80/15677621/materials_sheet/ON-Semiconductor-MBRA340T3G.csv?src-supplier=Compliance+Statements; ComponentLink14URL: http://sigma.octopart.com:80/150614152/rohs_statement/ON-Semiconductor-MBRA340T3G.pdf?src-supplier=Compliance+Statements; ComponentLink14Description: http://sigma.octopart.com:80/150614152/rohs_statement/ON-Semiconductor-MBRA340T3G.pdf?src-supplier=Compliance+Statements; ComponentLink15URL: http://sigma.octopart.com:80/reach_statement/ON-Semiconductor-company-79.pdf?src-supplier=Compliance+Statements; ComponentLink15Description: http://sigma.octopart.com:80/reach_statement/ON-Semiconductor-company-79.pdf?src-supplier=Compliance+Statements; ComponentLink16URL: https://octopart.com:443/opatz8j6/c1?t=zzn-QeKWnUTIoInBBQPnq2-KsBHceJK6K3Di68oXKNRROh1yObwrhIfgiObG-wqoALwLVjTjSHmYplZjCeWn-q8HVpW_q2F8JFKJqslmK1ptKZFGgWhiNTjCk-X3F1oiCxuNacxFjO0GuM-e28TQqjTQ5gDglIyA9DiWDXs9_UD5t2jlYsyT0X_N6D3As7ewWxw82up4uMZrz57LDgjWgjShyOLNEPJgVYRYhs_nhtEi-aeewe94t8zG-fVSA0SK1baPOhdicFNVV1nRPYknrO_IJ2AVTt3JuNz5Rux_5Ji3UfZsPwlPyX2eF8yjwkYgfgWinTURtYyAI9fkAiCLBUZamGpUFuLxlfvL&src-supplier=Compliance+Statements; ComponentLink16Description: https://octopart.com:443/opatz8j6/c1?t=zzn-QeKWnUTIoInBBQPnq2-KsBHceJK6K3Di68oXKNRROh1yObwrhIfgiObG-wqoALwLVjTjSHmYplZjCeWn-q8HVpW_q2F8JFKJqslmK1ptKZFGgWhiNTjCk-X3F1oiCxuNacxFjO0GuM-e28TQqjTQ5gDglIyA9DiWDXs9_UD5t2jlYsyT0X_N6D3As7ewWxw82up4uMZrz57LDgjWgjShyOLNEPJgVYRYhs_nhtEi-aeewe94t8zG-fVSA0SK1baPOhdicFNVV1nRPYknrO_IJ2AVTt3JuNz5Rux_5Ji3UfZsPwlPyX2eF8yjwkYgfgWinTURtYyAI9fkAiCLBUZamGpUFuLxlfvL&src-supplier=Compliance+Statements; ComponentLink17URL: https://octopart.com:443/opatz8j6/c1?t=NJ8a6hvi7xfiMo7vANJq_qq5CwgiSOMZ50FoGwFbdVP4ZYU8l2yzsihL5d3PYwPSnveb6yOwPbFEklAt98_r0GPlS3SH0en-PzaQ4UJ87X-8SUKCS_jgwdOPTTlwC48N3JBxqteYaPYTYi_MWY_tr-8i0sZ6qVdPF2LoDUWuM_HCXvNlLxr-CuaxZkYPpSF7SojnQnnv5iJsrRNMU3w9C2QjPL7Dn52RqoX7ulzDwYIbX4FC71ya5r_8oyAS221O1yOsg23BvQOD9XPEKD_2ywml0mHj-wzm5xxtgYeWvmyBCaeMd406MBzdLevzYMOAcnTG_zam_3et1Hn15cynFImq-tcBB7RajZQ4FQ&src-supplier=Compliance+Statements; ComponentLink17Description: https://octopart.com:443/opatz8j6/c1?t=NJ8a6hvi7xfiMo7vANJq_qq5CwgiSOMZ50FoGwFbdVP4ZYU8l2yzsihL5d3PYwPSnveb6yOwPbFEklAt98_r0GPlS3SH0en-PzaQ4UJ87X-8SUKCS_jgwdOPTTlwC48N3JBxqteYaPYTYi_MWY_tr-8i0sZ6qVdPF2LoDUWuM_HCXvNlLxr-CuaxZkYPpSF7SojnQnnv5iJsrRNMU3w9C2QjPL7Dn52RqoX7ulzDwYIbX4FC71ya5r_8oyAS221O1yOsg23BvQOD9XPEKD_2ywml0mHj-wzm5xxtgYeWvmyBCaeMd406MBzdLevzYMOAcnTG_zam_3et1Hn15cynFImq-tcBB7RajZQ4FQ&src-supplier=Compliance+Statements; LCSC PN: C26178
footprint Diode-SMD-Schotty-40V-3A (Molded, 2-Leads, Body 4.32x2.6mm)
pins: 1 C, 2 A

## MIC2940A-3.3WU-TR
designator U?
Linear Voltage Regulator IC Positive Fixed 1 Output 1.25A TO-263-3; Manufacturer: Microchip; Accuracy: 2.5%; Dropout Voltage: 400mV; Max Supply Voltage: 26V; Max Junction Temperature (Tj): 125°C; Min Input Voltage: 2V; Min Output Voltage: 3.3V; Min Supply Voltage: 3.7V; Number of Outputs: 1; Output Voltage Accuracy: 1%; Quiescent Current: 500µA; Supplier: DigiKey; Manufacturer Part Number: MIC2940A-3.3WU-TR; RoHS: Compliant; Category: LDO Voltage Regulators; Stock: 772; Pricing: 1=2.67, 25=2.23, 100=2.03, 750=2.03001 (USD); Projected EOL Date: 2034-05-14; Case/Package: TO-263-3; Country of Assembly: China; Country of Fabrication: United States of America; Country of Origin: China; Export Control Classification Number (ECCN) Code: EAR99; Height: 4.902mm; Harmonized Tariff Schedule (HTS) Code: 8542.39.0060; Lead Free: Lead Free; Lifecycle Status: Production; Max Operating Temperature: 125°C; Max Output current: 1.25A; Min Operating Temperature: -40°C; Mounting Technology: Surface Mount; Pins: 3; Number of Regulators: 1; Output Current: 1.25A; Output Voltage: 3.3V; Polarity: Positive; Radiation Hardening: No; Schedule B: 8542390000; ComponentLink1URL: https://datasheet.octopart.com:443/MIC2940A-3.3WU-TR-Microchip-datasheet-164493852.pdf?src-supplier=Upverter; ComponentLink1Description: https://datasheet.octopart.com:443/MIC2940A-3.3WU-TR-Microchip-datasheet-164493852.pdf?src-supplier=Upverter; ComponentLink2URL: https://datasheet.octopart.com:443/MIC2940A-3.3WU-TR-Microchip-datasheet-109479.pdf?src-supplier=SHENGYU+ELECTRONICS; ComponentLink2Description: https://datasheet.octopart.com:443/MIC2940A-3.3WU-TR-Microchip-datasheet-109479.pdf?src-supplier=SHENGYU+ELECTRONICS; ComponentLink3URL: https://datasheet.octopart.com:443/MIC2940A-3.3WU-TR-Microchip-datasheet-134530682.pdf?src-supplier=Geoflip; ComponentLink3Description: https://datasheet.octopart.com:443/MIC2940A-3.3WU-TR-Microchip-datasheet-134530682.pdf?src-supplier=Geoflip; ComponentLink4URL: https://datasheet.octopart.com:443/MIC2940A-3.3WUTR-Micrel-datasheet-14170148.pdf?src-supplier=iiiC; ComponentLink4Description: https://datasheet.octopart.com:443/MIC2940A-3.3WUTR-Micrel-datasheet-14170148.pdf?src-supplier=iiiC; ComponentLink5URL: http://sigma.octopart.com:80/188455473/materials_sheet/Microchip-MIC2940A-3.3WU-TR.pdf?src-supplier=Compliance+Statements; ComponentLink5Description: http://sigma.octopart.com:80/188455473/materials_sheet/Microchip-MIC2940A-3.3WU-TR.pdf?src-supplier=Compliance+Statements; ComponentLink6URL: http://sigma.octopart.com:80/conflict_mineral_statement/Microchip-company-68.pdf?src-supplier=Compliance+Statements; ComponentLink6Description: http://sigma.octopart.com:80/conflict_mineral_statement/Microchip-company-68.pdf?src-supplier=Compliance+Statements; ComponentLink7URL: http://sigma.octopart.com:80/conflict_mineral_statement/Microchip-company-69.pdf?src-supplier=Compliance+Statements; ComponentLink7Description: http://sigma.octopart.com:80/conflict_mineral_statement/Microchip-company-69.pdf?src-supplier=Compliance+Statements; ComponentLink8URL: http://sigma.octopart.com:80/reach_statement/Microchip-company-70.pdf?src-supplier=Compliance+Statements; ComponentLink8Description: http://sigma.octopart.com:80/reach_statement/Microchip-company-70.pdf?src-supplier=Compliance+Statements; ComponentLink9URL: http://sigma.octopart.com:80/rohs_statement/Microchip-company-71.pdf?src-supplier=Compliance+Statements; ComponentLink9Description: http://sigma.octopart.com:80/rohs_statement/Microchip-company-71.pdf?src-supplier=Compliance+Statements; LCSC PN: C632743
footprint FP-TO263-3LD-REG-BUCK-3.3V
pins: 1 Input (power), 2 Ground (power), 3 Output, 4 Ground (power)

## QT532G-13.560MAHJ-T
designator Y?
13.56 MHz ±30ppm Crystal 18pF 50 Ohms 2-SMD, No Lead; Manufacturer: QST; Description: Crystal 13.56MHz ±30ppm (Tol) ±30ppm (Stability) 18pF FUND 50Ohm 2-Pin CSMD T/R; Supplier: DigiKey; Manufacturer Part Number: QT532G-13.560MAHJ-T; Category: Crystals; Stock: 800; Pricing: 1=0.56, 10=0.491, 25=0.4644, 50=0.445, 100=0.4266, 250=0.40344, 500=0.38674, 1000=0.37073, 2000=0.3554, 3000=0.34672, 5000=0.3361, 7000=0.32929, 10000=0.32222, 12000=0.31866, 24000=0.30551, 25000=0.30475 (USD); ComponentLink1URL: https://datasheet.octopart.com:443/QT532G-13.560MAHJ-T-QST-datasheet-188916294.pdf?src-supplier=TME; ComponentLink1Description: https://datasheet.octopart.com:443/QT532G-13.560MAHJ-T-QST-datasheet-188916294.pdf?src-supplier=TME; LCSC PN: C6633022
footprint Crystal-13.56 MHz
pins: 1, 2